# Altium schematic symbol library SCH - Interface - SD - 104031-0811.SCHLIB: 1 symbol
Pins are listed as number, name and electrical type; pins without a type are passive.

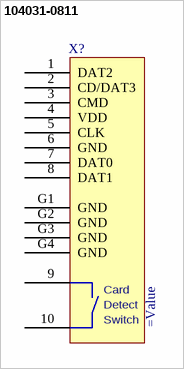
[diagram p0: symbol 104031-0811]

## 104031-0811
designator X?
microSD Memory Card Connector with Detect Switch
pins: 1 DAT2, 2 CD/DAT3, 3 CMD, 4 VDD, 5 CLK, 6 GND, 7 DAT0, 8 DAT1, 9 CDSW, 10 CDSW, G1 GND, G2 GND, G3 GND, G4 GND
text: Card; Detect; Switch